# Altium schematic symbol library PESD24VS1UL-QZ.SchLib: 1 symbol
Pins are listed as number, name and electrical type; pins without a type are passive.

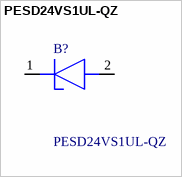
[diagram p0: symbol PESD24VS1UL-QZ]

## PESD24VS1UL-QZ
designator B?
Unidirectional ESD protection diode; Manufacturer_Name: Nexperia; Geometry.Height: 0.5mm; Mouser Part Number: *; Mouser Price/Stock: *; Manufacturer_Part_Number: PESD24VS1UL-QZ; Datasheet Link: https://assets.nexperia.com/documents/data-sheet/PESD24VS1UL-Q.pdf
footprint PESD24VS1ULQZ
pins: 1 K, 2 A